# EAGLE library part LSM6DSM (library poi)
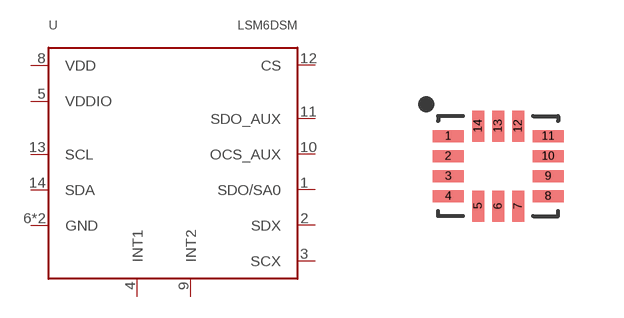
[diagram p5: symbol with the pads of LGA-14L; footprint LGA-14L]

Designator prefix -

## LSM6DSM  [LGA-14L]
1  SDO/SA0
2  SDX
3  SCX
4  INT1
5  VDDIO
6  GND
7  GND
8  VDD
9  INT2
10  OCS_AUX
11  SDO_AUX
12  CS
13  SCL
14  SDA

## Footprint LGA-14L (pad centres in mm)
smd 0.775 x 0.3: 1 -1.25,0.75; 2 -1.25,0.25; 3 -1.25,-0.25; 4 -1.25,-0.75; 8 1.25,-0.75; 9 1.25,-0.25; 10 1.25,0.25; 11 1.25,0.75
smd 0.3 x 0.775: 5 -0.5,-1; 6 0,-1; 7 0.5,-1; 12 0.5,1; 13 0,1; 14 -0.5,1